# Altium schematic symbol library 4.7nF 50V cap cer TH.SchLib: 1 symbol
Pins are listed as number, name and electrical type; pins without a type are passive.

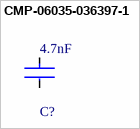
[diagram p0: symbol CMP-06035-036397-1]

## CMP-06035-036397-1
designator C?, comment 4.7nF
Cap Ceramic 4.7nF 50V X7R ±10% Radial 2.5mm +125°C Ammo Pack; Lead/Base Style: Straight; Lead Diameter: 0.5mm; Package Quantity: 2000; Min Operating Temperature: -55°C; Voltage Rating (DC): 50V; Capacitance: 4.7nF; Tolerance: 10%; Height: 3.5mm; Mount: Through Hole; Dielectric: X7R; Case/Package: Radial; Height - Seated (Max): 0.138inch; Width: 0.098inch; Voltage Rating: 50V; Packaging: Tape and Reel; Resistor Type: Ceramic; Lead Pitch: 0.098inch; Max Operating Temperature: 125°C; Ratings: AEC-Q200; Length: 0.142inch; Termination: Radial
footprint FP-RCE0DB-MFG
pins: 1, 2